# EAGLE library part PCA9685_MALE (library club)
PCA9685_20PINS_MALE
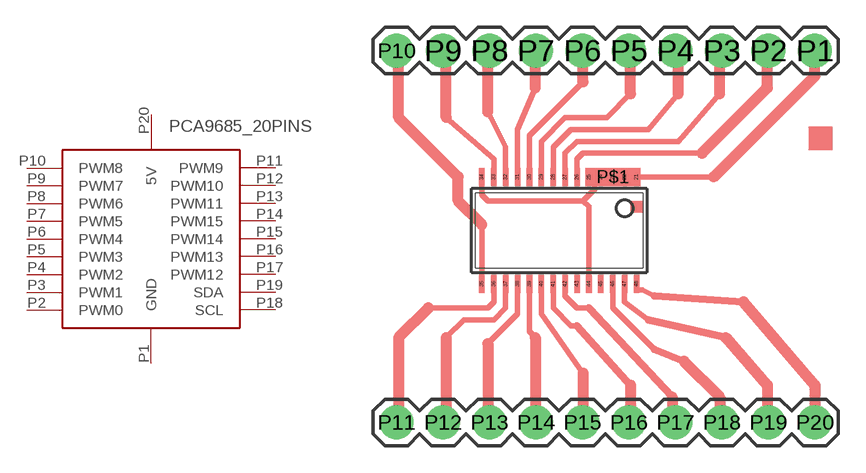
[diagram p4: symbol with the pads of TSSOP28_&_2X10PINS_SPACE10MM; footprint TSSOP28_&_2X10PINS_SPACE10MM]

Designator prefix -

## PCA9685_MALE  [TSSOP28_&_2X10PINS_SPACE10MM]
P1  GND
P2  PWM0
P3  PWM1
P4  PWM2
P5  PWM3
P6  PWM4
P7  PWM5
P8  PWM6
P9  PWM7
P10  PWM8
P11  PWM9
P12  PWM10
P13  PWM11
P14  PWM15
P15  PWM14
P16  PWM13
P17  PWM12
P18  SCL
P19  SDA
P20  5V

## Footprint TSSOP28_&_2X10PINS_SPACE10MM (pad centres in mm)
smd 0.305 x 0.991: 21 4.225,3.243; 22 3.575,3.243; 23 2.925,3.243; 24 2.275,3.243; 25 1.625,3.243; 26 0.975,3.243; 27 0.325,3.243; 28 -0.325,3.243; 29 -0.975,3.243; 30 -1.625,3.243; 31 -2.275,3.243; 32 -2.925,3.243; 33 -3.575,3.243; 34 -4.225,3.243; 35 -4.225,-2.593; 36 -3.575,-2.593; 37 -2.925,-2.593; 38 -2.275,-2.593; 39 -1.625,-2.593; 40 -0.975,-2.593; 41 -0.325,-2.593; 42 0.325,-2.593; 43 0.975,-2.593; 44 1.625,-2.593; 45 2.275,-2.593; 46 2.925,-2.593; 47 3.575,-2.593; 48 4.225,-2.593
drill 1.016 pad 1.88: P1 13.97,10.16; P2 11.43,10.16; P3 8.89,10.16; P4 6.35,10.16; P5 3.81,10.16; P6 1.27,10.16; P7 -1.27,10.16; P8 -3.81,10.16; P9 -6.35,10.16; P10 -8.89,10.16; P11 -8.89,-10.16; P12 -6.35,-10.16; P13 -3.81,-10.16; P14 -1.27,-10.16; P15 1.27,-10.16; P16 3.81,-10.16; P17 6.35,-10.16; P18 8.89,-10.16; P19 11.43,-10.16; P20 13.97,-10.16
smd 3 x 1: P$1 2.925,3.25